# EAGLE library part 20682-040E-02 (library 20682-040E-02)
FFC/FPC Connector, 40 Contact(s), 1 Row(s), Female, Straight, 0.016 inch Pitch, Surface Mount Terminal, Locking, Black Insulator, Receptacle Source: Datasheet <https://www.i-pex.com/sites/default/files/downloads/pdf/2D_CABLINE-CA_II_RECEPTACLE_20682C10.pdf>
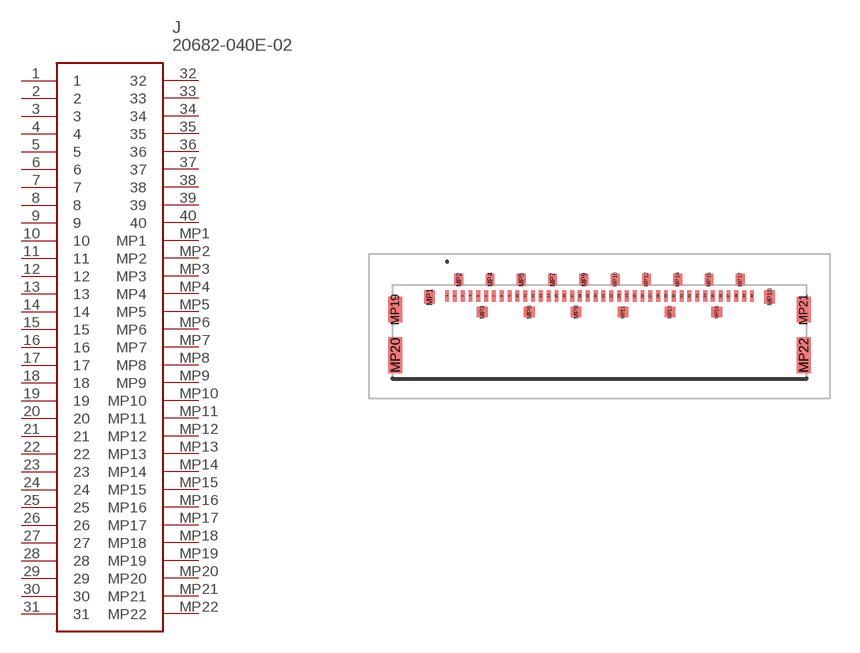
[diagram p0: symbol with the pads of 20682040E02; footprint 20682040E02]

Designator prefix J

## 20682-040E-02 (Description: FFC/FPC Connector, 40 Contact(s), 1 Row(s), Female, Straight, 0.016 inch Pitch, Surface Mount Terminal, Locking, Black Insulator, Receptacle; Height: 0.92mm; Manufacturer_Name: I-Pex; Manufacturer_Part_Number: 20682-040E-02)  [20682040E02]
1  1
2  2
3  3
4  4
5  5
6  6
7  7
8  8
9  9
10  10
11  11
12  12
13  13
14  14
15  15
16  16
17  17
18  18
19  19
20  20
21  21
22  22
23  23
24  24
25  25
26  26
27  27
28  28
29  29
30  30
31  31
32  32
33  33
34  34
35  35
36  36
37  37
38  38
39  39
40  40
MP1  MP1
MP2  MP2
MP3  MP3
MP4  MP4
MP5  MP5
MP6  MP6
MP7  MP7
MP8  MP8
MP9  MP9
MP10  MP10
MP11  MP11
MP12  MP12
MP13  MP13
MP14  MP14
MP15  MP15
MP16  MP16
MP17  MP17
MP18  MP18
MP19  MP19
MP20  MP20
MP21  MP21
MP22  MP22

## Footprint 20682040E02 (pad centres in mm)
20682-040E-02-3
smd 0.2 x 0.6: 1 -7.8,1.695; 2 -7.4,1.695; 3 -7,1.695; 4 -6.6,1.695; 5 -6.2,1.695; 6 -5.8,1.695; 7 -5.4,1.695; 8 -5,1.695; 9 -4.6,1.695; 10 -4.2,1.695; 11 -3.8,1.695; 12 -3.4,1.695; 13 -3,1.695; 14 -2.6,1.695; 15 -2.2,1.695; 16 -1.8,1.695; 17 -1.4,1.695; 18 -1,1.695; 19 -0.6,1.695; 20 -0.2,1.695; 21 0.2,1.695; 22 0.6,1.695; 23 1,1.695; 24 1.4,1.695; 25 1.8,1.695; 26 2.2,1.695; 27 2.6,1.695; 28 3,1.695; 29 3.4,1.695; 30 3.8,1.695; 31 4.2,1.695; 32 4.6,1.695; 33 5,1.695; 34 5.4,1.695; 35 5.8,1.695; 36 6.2,1.695; 37 6.6,1.695; 38 7,1.695; 39 7.4,1.695; 40 7.8,1.695
smd 0.55 x 0.7: MP1 -8.7,1.645; MP18 8.7,1.645
smd 0.45 x 0.58: MP2 -7.2,2.535; MP4 -5.6,2.535; MP5 -4,2.535; MP7 -2.4,2.535; MP9 -0.8,2.535; MP10 0.8,2.535; MP12 2.4,2.535; MP14 4,2.535; MP15 5.6,2.535; MP17 7.2,2.535
smd 0.55 x 0.55: MP3 -6,0.87; MP6 -3.6,0.87; MP8 -1.2,0.87; MP11 1.2,0.87; MP13 3.6,0.87; MP16 6,0.87
smd 0.71 x 1.3: MP19 -10.445,0.995; MP21 10.445,0.995
smd 0.71 x 1.85: MP20 -10.445,-1.33; MP22 10.445,-1.33